# Altium footprint library Warrison.PcbLib: 39 footprints (part 2 of 3)
Each footprint in its own frame and in the unit in brackets; x right, y up, seen from the top. Pads: shape width x height; smd on the part's side, far side on the other; paste and mask are expansions set on the pad; w line width, h text height; cw(c..) or ccw(c..) is an arc to the next point about the centre after c.
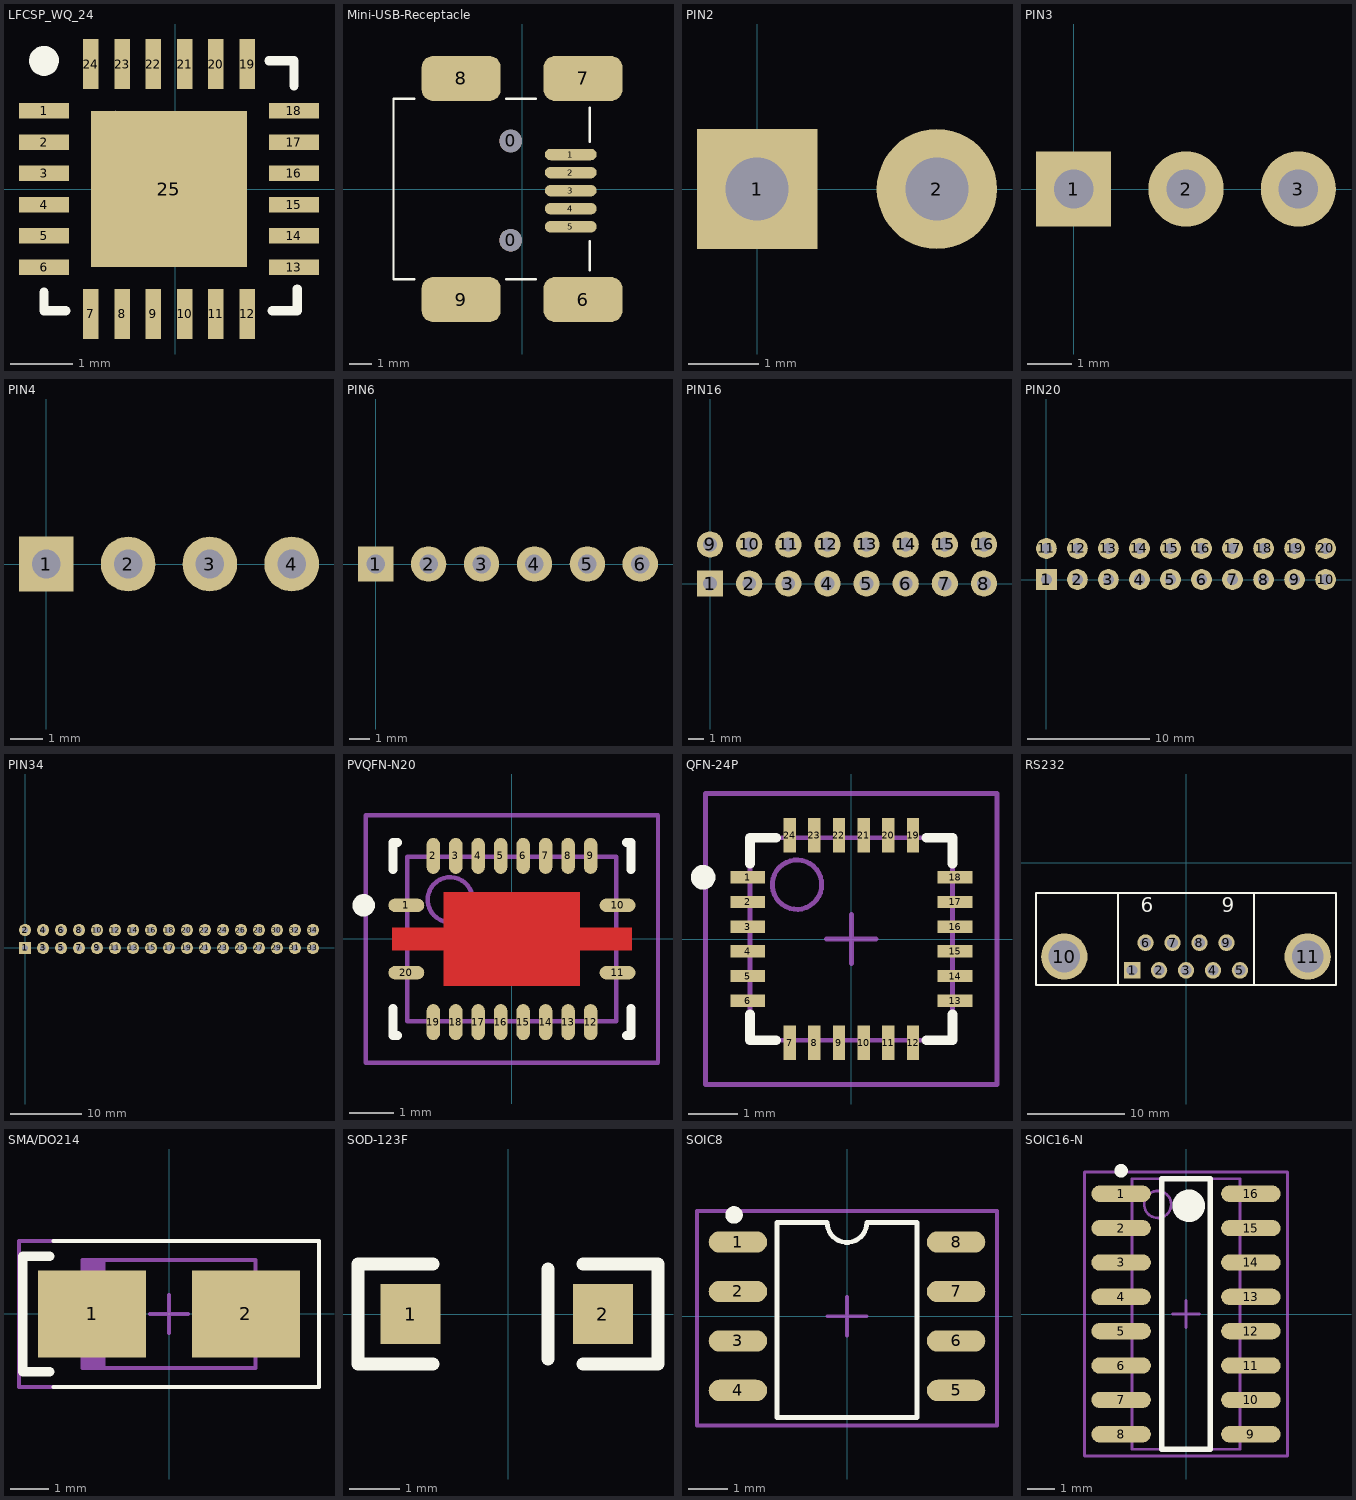
[diagram p1: the footprints below, top view; thin cyan lines are the x and y axes]

## LFCSP_WQ_24 [mm]
pads (25):
  rect 0.8x0.25 smd: 1(-2.1,1.25) 2(-2.1,0.75) 3(-2.1,0.25) 4(-2.1,-0.25) 5(-2.1,-0.75) 6(-2.1,-1.25) 13(1.9,-1.25) 14(1.9,-0.75) 15(1.9,-0.25) 16(1.9,0.25) 17(1.9,0.75) 18(1.9,1.25)
  rect 0.25x0.8 smd: 7(-1.35,-2) 8(-0.85,-2) 9(-0.35,-2) 10(0.15,-2) 11(0.65,-2) 12(1.15,-2) 19(1.15,2) 20(0.65,2) 21(0.15,2) 22(-0.35,2) 23(-0.85,2) 24(-1.35,2)
  rect 2.5x2.5 smd: 25(-0.1,0)
Top Overlay:
  lines w0: -0.95,1.25 -0.95,1.25
  lines w0.15: -2.1,-1.65 -2.1,-1.95 -1.75,-1.95 ; 1.5,2.05 1.9,2.05 1.9,1.65 ; 1.55,-1.95 1.95,-1.95 1.95,-1.6
  lines w0.254: -2,2 cw(c-2.1,2.05) -1.988,2.05

## Mini-USB-Receptacle [mm]
pads (11):
  round 1 hole 1: 0(-0.507,-2.272) 0(-0.507,2.128)
  oval 2.3x0.508 smd: 1(2.158,1.528) 2(2.158,0.728) 3(2.158,-0.072) 4(2.158,-0.872) 5(2.158,-1.672)
  rrect50% 3.5x2 smd: 6(2.7,-4.9) 7(2.7,4.9) 8(-2.7,4.9) 9(-2.7,-4.9)
Top Overlay:
  lines w0.1: -4.77,-4 -5.7,-4 -5.7,4 -4.77,4 ; -0.7,-4 0.6,-4 ; -0.7,4 0.6,4 ; 3,-3.6 3,-2.3 ; 3,2.1 3,3.6

## PIN2 [mm]
pads (2):
  rect 1.7x1.7 hole 0.89: 1(0,0)
  round 1.7 hole 0.89: 2(2.54,0)

## PIN3 [mm]
pads (3):
  rect 1.7x1.7 hole 0.89: 1(0,0)
  round 1.7 hole 0.89: 2(2.54,0) 3(5.08,0)

## PIN4 [mm]
pads (4):
  rect 1.7x1.7 hole 0.89: 1(0,0)
  round 1.7 hole 0.89: 2(2.54,0) 3(5.08,0) 4(7.62,0)

## PIN6 [mm]
pads (6):
  rect 1.7x1.7 hole 0.89: 1(0,0)
  round 1.7 hole 0.89: 2(2.54,0) 3(5.08,0) 4(7.62,0) 5(10.16,0) 6(12.7,0)

## PIN16 [mm]
pads (16):
  rect 1.7x1.7 hole 0.89: 1(0,0)
  round 1.7 hole 0.89: 2(2.54,0) 3(5.08,0) 4(7.62,0) 5(10.16,0) 6(12.7,0) 7(15.24,0) 8(17.78,0) 9(0,2.54) 10(2.54,2.54) 11(5.08,2.54) 12(7.62,2.54) 13(10.16,2.54) 14(12.7,2.54) 15(15.24,2.54) 16(17.78,2.54)

## PIN20 [mm]
pads (20):
  rect 1.7x1.7 hole 0.89: 1(0,0)
  round 1.7 hole 0.89: 2(2.54,0) 3(5.08,0) 4(7.62,0) 5(10.16,0) 6(12.7,0) 7(15.24,0) 8(17.78,0) 9(20.32,0) 10(22.86,0) 11(0,2.54) 12(2.54,2.54) 13(5.08,2.54) 14(7.62,2.54) 15(10.16,2.54) 16(12.7,2.54) 17(15.24,2.54) 18(17.78,2.54) 19(20.32,2.54) 20(22.86,2.54)

## PIN34 [mm]
pads (34):
  rect 1.7x1.7 hole 0.89: 1(0,0)
  round 1.7 hole 0.89: 2(0,2.54) 3(2.54,0) 4(2.54,2.54) 5(5.08,0) 6(5.08,2.54) 7(7.62,0) 8(7.62,2.54) 9(10.16,0) 10(10.16,2.54) 11(12.7,0) 12(12.7,2.54) 13(15.24,0) 14(15.24,2.54) 15(17.78,0) 16(17.78,2.54) 17(20.32,0) 18(20.32,2.54) 19(22.86,0) 20(22.86,2.54) 21(25.4,0) 22(25.4,2.54) 23(27.94,0) 24(27.94,2.54) 25(30.48,0) 26(30.48,2.54) 27(33.02,0) 28(33.02,2.54) 29(35.56,0) 30(35.56,2.54) 31(38.1,0) 32(38.1,2.54) 33(40.64,0) 34(40.64,2.54)

## PVQFN-N20 [mm] "QFN, 20-Leads, Body 3.7x4.7mm (max),"
height 1
pads (20):
  oval 0.8x0.3 smd: 1(-2.35,0.75) 10(2.35,0.75) 11(2.35,-0.75) 20(-2.35,-0.75)
  oval 0.3x0.8 smd: 2(-1.75,1.85) 3(-1.25,1.85) 4(-0.75,1.85) 5(-0.25,1.85) 6(0.25,1.85) 7(0.75,1.85) 8(1.25,1.85) 9(1.75,1.85) 12(1.75,-1.85) 13(1.25,-1.85) 14(0.75,-1.85) 15(0.25,-1.85) 16(-0.25,-1.85) 17(-0.75,-1.85) 18(-1.25,-1.85) 19(-1.75,-1.85)
Top Layer:
  rectangle: 1.397,-0.254 2.667,0.254
  rectangle: -2.667,-0.254 -1.397,0.254
  rectangle: -1.52,-1.05 1.52,1.05
Top Overlay:
  circle w0.25: c-3.3,0.75 r0.125
  lines w0.2: -2.65,-1.55 -2.65,-2.15 -2.55,-2.15 ; -2.65,1.55 -2.65,2.15 -2.55,2.15 ; 2.55,-2.15 2.65,-2.15 2.65,-1.55 ; 2.55,2.15 2.65,2.15 2.65,1.55
Mechanical 13:
  circle w0.1: c-1.375,0.875 r0.5
  lines w0.1: -2.325,-1.825 2.325,-1.825 2.325,1.825 -2.325,1.825 -2.325,-1.825
Mechanical 15:
  lines w0.1: -0.5,0 0.5,0 ; 0,-0.5 0,0.5 ; -3.25,-2.75 3.25,-2.75 3.25,2.75 -3.25,2.75 -3.25,-2.75
3D body: height 1, standoff 0.05, extent -2.325,-1.825 2.325,1.825

## QFN-24P [mm] "QFN, 24-Leads, Body 4.1x4.1mm (max), Pitch 0.50mm, IPC Low Density"
height 0.95
pads (24):
  rect 0.7x0.25 smd: 1(-2.1,1.25) 2(-2.1,0.75) 3(-2.1,0.25) 4(-2.1,-0.25) 5(-2.1,-0.75) 6(-2.1,-1.25) 13(2.1,-1.25) 14(2.1,-0.75) 15(2.1,-0.25) 16(2.1,0.25) 17(2.1,0.75) 18(2.1,1.25)
  rect 0.25x0.7 smd: 7(-1.25,-2.1) 8(-0.75,-2.1) 9(-0.25,-2.1) 10(0.25,-2.1) 11(0.75,-2.1) 12(1.25,-2.1) 19(1.25,2.1) 20(0.75,2.1) 21(0.25,2.1) 22(-0.25,2.1) 23(-0.75,2.1) 24(-1.25,2.1)
Top Overlay:
  circle w0.25: c-3,1.25 r0.125
  lines w0.2: -2.05,-1.525 -2.05,-2.05 -1.525,-2.05 ; -2.05,1.525 -2.05,2.05 -1.525,2.05 ; 1.525,-2.05 2.05,-2.05 2.05,-1.525 ; 1.525,2.05 2.05,2.05 2.05,1.525
Mechanical 13:
  circle w0.1: c-1.1,1.1 r0.5
  lines w0.1: -2.05,-2.05 2.05,-2.05 2.05,2.05 -2.05,2.05 -2.05,-2.05
Mechanical 15:
  lines w0.1: -0.5,0 0.5,0 ; 0,-0.5 0,0.5 ; -2.95,-2.95 2.95,-2.95 2.95,2.95 -2.95,2.95 -2.95,-2.95
3D body: height 0.95, standoff 0.05, extent -2.05,-2.05 2.05,2.05

## RS232 [mm]
pads (11):
  rect 1.69x1.69 hole 1.09: 1(-5.54,-11.047)
  round 1.69 hole 1.09: 2(-2.77,-11.047) 3(0,-11.047) 4(2.77,-11.047) 5(5.54,-11.047) 6(-4.155,-8.207) 7(-1.385,-8.207) 8(1.385,-8.207) 9(4.155,-8.207)
  round 4.76 hole 3.26: 10(-12.495,-9.627) 11(12.495,-9.627)
Top Overlay:
  lines w0.2: -15.4,-3.175 -15.4,-12.527 15.4,-12.527 15.4,-3.175 ; -15.4,-3.127 15.4,-3.127 ; -7,-12.527 -7,-3.127 ; 7,-12.527 7,-3.127
  text "6" at -4.655,-5.102 h1.5
  text "9" at 3.655,-5.102 h1.5

## SMA/DO214 [mm] "Molded Diode, 2-Leads, Body 4.2x2.7mm, IPC Low Density"
height 2
pads (2):
  rect 2.8x2.25 smd: 1(-2,0) 2(2,0)
Top Overlay:
  lines w0.1: -3,-1.9 3.9,-1.9 3.9,1.9 -3,1.9
  lines w0.254: -3.1,-1.5 -3.8,-1.5 -3.8,1.5 -3.1,1.5
Mechanical 13:
  rectangle: -2.25,-1.4 -1.645,1.4
  lines w0.1: -2.25,-1.4 -2.25,1.4 2.25,1.4 2.25,-1.4 -2.25,-1.4
Mechanical 15:
  lines w0.1: -0.5,0 0.5,0 ; 0,-0.5 0,0.5 ; -3.9,-1.9 -3.9,1.9 3.9,1.9 3.9,-1.9 -3.9,-1.9
3D body: height 2, standoff 0, extent -2.25,-1.4 2.25,1.4

## SOD-123F [mm]
pads (2):
  rect 1.2x1.2 smd: 1(-1.95,0) 2(1.9,0)
Top Overlay:
  lines w0.254: -1.5,-1 -3,-1 -3,1 -1.5,1 ; 0.8,-0.9 0.8,0.9 ; 1.5,-1 3,-1 3,1 1.5,1

## SOIC8 [mm]
pads (8):
  oval 1.5x0.55 smd: 1(-2.8,1.905) 2(-2.8,0.635) 3(-2.8,-0.635) 4(-2.8,-1.905) 5(2.8,-1.905) 6(2.8,-0.635) 7(2.8,0.635) 8(2.8,1.905)
Top Overlay:
  circle w0.25: c-2.9,2.6 r0.1
  lines w0.125: -0.52,2.405 -1.8,2.405 -1.8,-2.595 1.8,-2.595 1.8,2.405 0.53,2.405 ; -0.51,2.405 ccw(c0,2.405) 0.51,2.405
Mechanical 15:
  lines w0.1: -0.5,0 0.5,0 ; 0,-0.5 0,0.5 ; -3.85,-2.8 3.85,-2.8 3.85,2.7 -3.85,2.7 -3.85,-2.8

## SOIC16-N [mm] "SOIC, 16-Leads, Body 10.0x4.0mm (max), Pitch 1.27mm, IPC Medium Density"
height 1.748
pads (16):
  oval 2.2x0.6 smd: 1(-2.4,4.445) 2(-2.4,3.175) 3(-2.4,1.905) 4(-2.4,0.635) 5(-2.4,-0.635) 6(-2.4,-1.905) 7(-2.4,-3.175) 8(-2.4,-4.445) 9(2.4,-4.445) 10(2.4,-3.175) 11(2.4,-1.905) 12(2.4,-0.635) 13(2.4,0.635) 14(2.4,1.905) 15(2.4,3.175) 16(2.4,4.445)
Top Overlay:
  circle w0.25: c-2.4,5.295 r0.125
  circle w0.6: c0.1,4 r0.3
  lines w0.2: -0.9,-5 -0.9,5 0.9,5 0.9,-5 -0.9,-5
Mechanical 13:
  circle w0.1: c-1.045,4.05 r0.5
  lines w0.1: -1.995,-5 -1.995,5 1.995,5 1.995,-5 -1.995,-5
Mechanical 15:
  lines w0.1: -0.5,0 0.5,0 ; 0,-0.5 0,0.5 ; -3.75,-5.25 -3.75,5.25 3.75,5.25 3.75,-5.25 -3.75,-5.25
3D body: height 1.75, standoff 0.25, extent -1.995,-5 1.995,5